# Altium integrated library ON Semi Signal Management Audio ASSP.IntLib: 26 symbols (part 2 of 2)
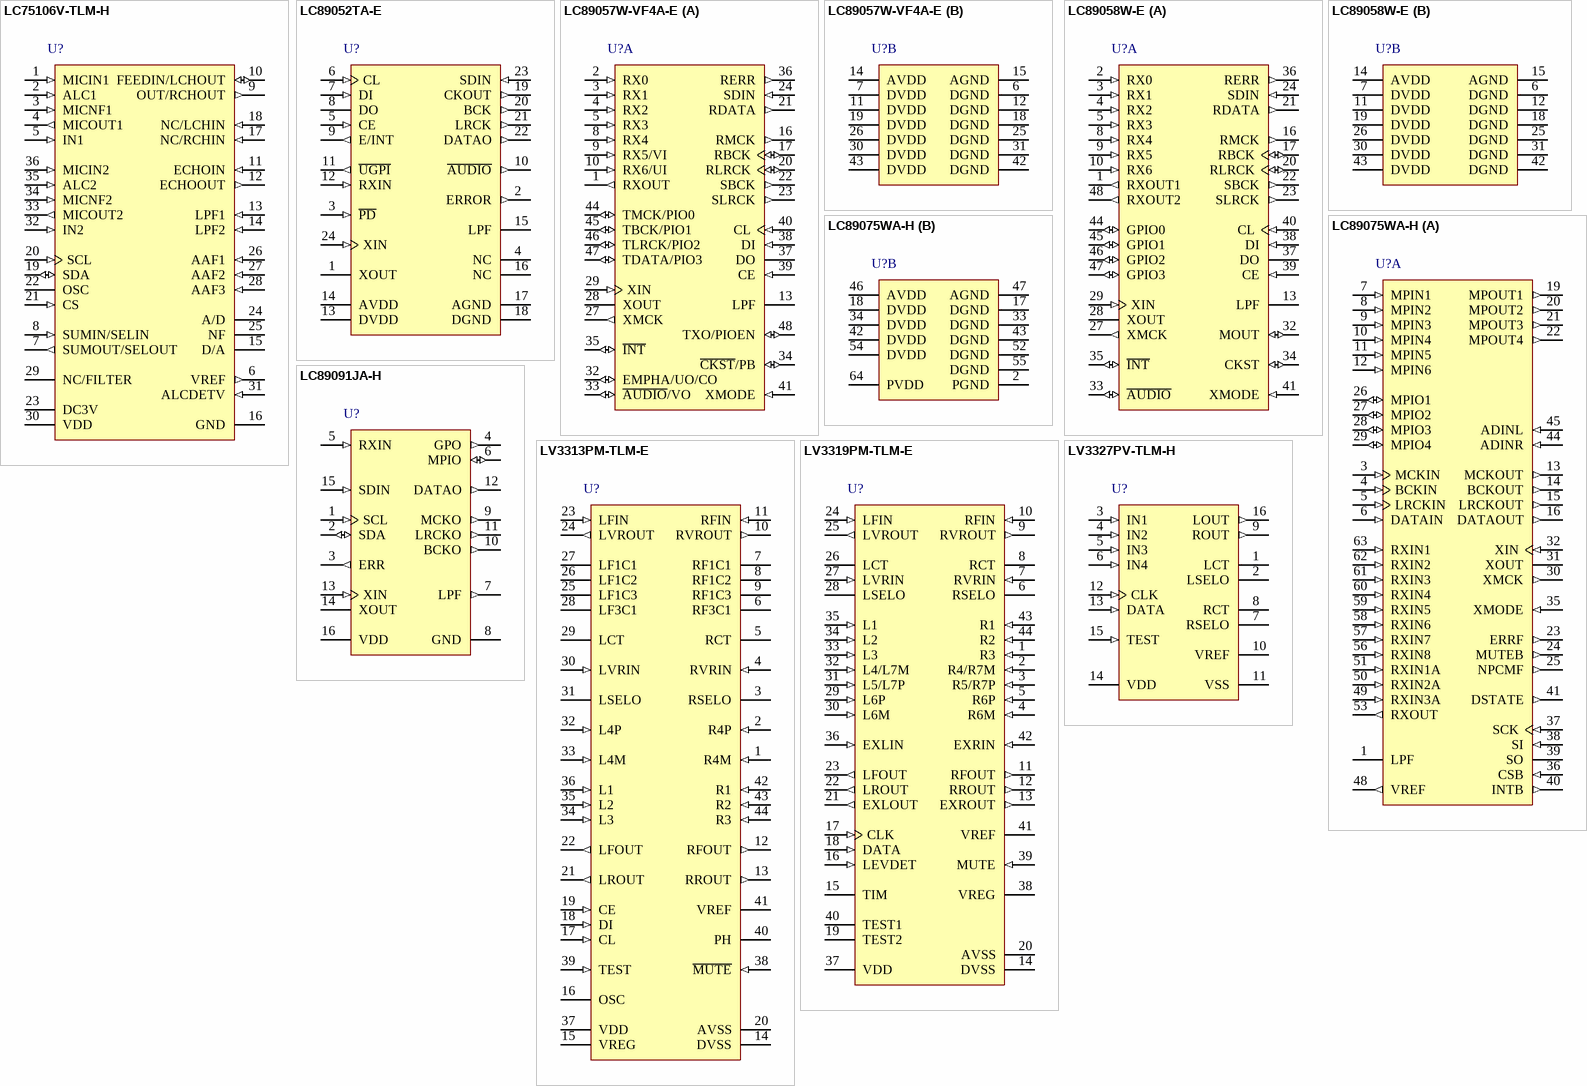
[diagram p2: symbols LC75106V-TLM-H to LV3327PV-TLM-H]

## LC89058W-E
designator U?
Digital Audio Interface Receiver, 3 to 3.6 V, -30 to 70 degC, 48-Pin SQFP, Pb-Free, Tray; Manufacturer: On Semiconductor; PartNumber: LC89058W-E; Function: S/PDIF Demodulator; Supply Voltage Max (V): 3.6; Supply Voltage Min (V): 3; DatasheetVersion: Rev. 0; PackageReference: SQFP-48; PackageDescription: 48-Pin Quad Flat Package, Body 7 x 7 mm, Pitch 0.5 mm; Supplier 1: Digi-Key; Supplier Part Number 1: LC89058W-E-ND; Supplier 2: Mouser; Supplier Part Number 2: 863-LC89058W-E; Packing: Tray; RoHS: TRUE; Mounting Technology: Surface Mount; ComponentLink1Description: Manufacturer URL; ComponentLink1URL: http://www.onsemi.com/; ComponentLink2Description: Datasheet; ComponentLink2URL: http://www.onsemi.com/pub_link/Collateral/ENA1056-D.PDF; ComponentLink3Description: Package Specification; ComponentLink3URL: http://www.onsemi.com/pub_link/Collateral/EN7202-D.PDF
footprint ONSC-SQFP-48_N (QFP, 48-Leads, Body 7x7mm, Pitch 0.5mm, IPC Medium Density)
footprint ONSC-SQFP-48_L (QFP, 48-Leads, Body 7x7mm, Pitch 0.5mm, IPC High Density)
footprint ONSC-SQFP-48_M (QFP, 48-Leads, Body 7x7mm, Pitch 0.5mm, IPC Low Density)
part A pins: 1 RXOUT1 (out) "RX0-6 input S/PDIF through output pin 1", 2 RX0 (in) "5V withstand voltage TLL input level compatible S/PDIF input pin (connected to GND when RX1 is set)", 3 RX1 (in) "Co-axial compatible S/PDIF input pin (supported demodulation sampling frequency of up to 96kHz)", 4 RX2 (in) "5V withstand voltage TLL input level compatible S/PDIF input pin (connected to GND when RX1 is set)", 5 RX3 (in) "5V withstand voltage TLL input level compatible S/PDIF input pin", 8 RX4 (in) "5V withstand voltage TLL input level compatible S/PDIF input pin", 9 RX5 (in) "5V withstand voltage TLL input level compatible S/PDIF input pin", 10 RX6 (in) "5V withstand voltage TLL input level compatible S/PDIF input pin", 13 LPF "PLL loop filter connection pin", 16 RMCK (out) "R system clock output pin (VCO, 512fs, XIN)", 17 RBCK (io) "R system bit clock I/O pin (64fs)", 20 RLRCK (io) "R system LR clock I/O pin (fs)", 21 RDATA (out) "Serial audio data output pin", 22 SBCK (out) "S system bit clock output pin (16fs, 32fs, 64fs, 128fs)", 23 SLRCK (out) "S system LR clock output pin (fs/4, fs/2, fs, 2fs)", 24 SDIN (in) "External serial audio data input pin", 27 XMCK (out) "Oscillation amplifier clock output pin", 28 XOUT "Output pin connected to the resonator", 29 XIN (in) "External clock input pin, connected to the resonator (12.288MHz/24.576MHz)", 32 MOUT (io) "Emphasis information||Input fs monitor output||Chip address setting input pin", 33 ~{AUDIO} (io) "Channel status bit 1 output||Chip address setting input pin", 34 CKST (io) "Clock switching transition period signal output||Master/slave setting input pin", 35 ~{INT} (io) "Microcontroller interrupt signal output||Pin44-48 I/O setting input pin", 36 RERR (out) "PLL clock error, data error flag output", 37 DO (hiz) "CCB microcontroller I/F, read data output pin (3-state)", 38 DI (in) "CCB microcontroller I/F, write data input pin", 39 CE (in) "CCB microcontroller I/F, chip enable input pin", 40 CL (in) "CCB microcontroller I/F, clock input pin", 41 XMODE (in) "System reset input pin", 44 GPIO0 (io) "General-purpose I/O pin||Selector input pin (output referred to RDATA pin)", 45 GPIO1 (io) "General-purpose I/O pin||Selector input pin (output referred to RLRCK pin)", 46 GPIO2 (io) "General-purpose I/O pin||Selector input pin (output referred to RBCK pin)", 47 GPIO3 (io) "General-purpose I/O pin||Selector input pin (output referred to RMCK pin)", 48 RXOUT2 (out) "RX0-6 input S/PDIF through output pin 2"
part B pins: 6 DGND (power) "Digital GND", 7 DVDD (power) "Digital power supply (3.3V)", 11 DVDD (power) "Digital power supply (3.3V)", 12 DGND (power) "Digital GND", 14 AVDD (power) "Analog power supply (3.3V)", 15 AGND (power) "Analog GND", 18 DGND (power) "Digital GND", 19 DVDD (power) "Digital power supply (3.3V)", 25 DGND (power) "Digital GND", 26 DVDD (power) "Digital power supply (3.3V)", 30 DVDD (power) "Digital power supply", 31 DGND (power) "Digital GND", 42 DGND (power) "Digital GND", 43 DVDD (power) "Digital power supply (3.3V)"

## LC89075WA-H
designator U?
Digital Audio Interface Receiver with Stereo ADC and Audio Selector, -30 to 85 degC, 64-Pin SQFP, Pb-Free, Tray; Manufacturer: On Semiconductor; PartNumber: LC89075WA-H; Function: S/PDIF Demodulator; Power Dissipation Max (mW): 559; Supply Voltage Max (V): 5.5, 3.6; Supply Voltage Min (V): 4.5, 3.0; DatasheetVersion: Rev. 1; PackageVersion: Rev. A, 11/2013; PackageReference: SQFP-64-131AK; PackageDescription: 64-Pin Quad Flat Package, Body 10 x 10 mm, Pitch 0.5 mm; Supplier 1: Mouser; Supplier Part Number 1: 863-LC89075WA-H; Packing: Tray; RoHS: TRUE; Mounting Technology: Surface Mount; ComponentLink1Description: Manufacturer URL; ComponentLink1URL: http://www.onsemi.com/; ComponentLink2Description: Datasheet; ComponentLink2URL: http://www.onsemi.com/pub_link/Collateral/ENA2170-D.PDF; ComponentLink3Description: Package Specification; ComponentLink3URL: http://www.onsemi.com/pub_link/Collateral/131AK.PDF
footprint ONSC-SQFP-64-131AK_V (QFP, 64-Leads, Body 10x10mm, Pitch 0.5mm)
part A pins: 1 LPF "PLL:Loop filter connection pin", 3 MCKIN (in) "Master clock input pin", 4 BCKIN (in) "Bit clock input pin", 5 LRCKIN (in) "LR clock input pin/DSD data input pin", 6 DATAIN (in) "2ch audio data input pin/DSD data input pin/1,2ch/8ch audio data input pin", 7 MPIN1 (in) "Master clock input pin/3,4ch/8ch audio data input pin", 8 MPIN2 (in) "Bit clock input pin/5,6ch/8ch audio data input pin", 9 MPIN3 (in) "LR clock input pin/DSD data input pin/7,8ch/8ch audio data input pin", 10 MPIN4 (in) "2ch audio data input pin/DSD data input pin/1,2ch/6ch audio data input pin/External error signal input pin", 11 MPIN5 (in) "3,4ch/6ch audio data input pin/External data mute signal input pin", 12 MPIN6 (in) "5,6ch/6ch audio data input pin/External non-PCM signal input pin", 13 MCKOUT (out) "Master clock output pin", 14 BCKOUT (out) "Bit clock output pin", 15 LRCKOUT (out) "LR clock output pin/DSD data output pin", 16 DATAOUT (out) "2ch audio data output pin/DSD data output pin/1,2ch/6ch audio data output pin/1,2ch/8ch audio data output pin", 19 MPOUT1 (out) "Master clock output pin/3,4ch/6ch audio data output pin/3,4ch/8ch audio data output pin", 20 MPOUT2 (out) "Bit clock output pin/5,6ch/6ch audio data output pin/5,6ch/8ch audio data output pin", 21 MPOUT3 (out) "LR clock output pin/DSD data output pin/7,8ch/8ch audio data output pin", 22 MPOUT4 (out) "2ch audio data output pin/DSD data output pin/Input S/PDIF through output pin", 23 ERRF (out) "PLL lock error, data error flag output pin/External error signal output pin", 24 MUTEB (out) "Clock switching period data mute signal output pin/External data mute signal output pin", 25 NPCMF (out) "Channel status data delimiter bit (bit 1) output pin/External non-PCM signal output pin", 26 MPIO1 (io) "Channel status data delimiter bit (bit 1) output pin/Microcontroller extended register output pin/Master clock input pin (ADC slave operation)/Master clock input pin/3.3V tolerance TTL-compatible S/PDIF input pin", 27 MPIO2 (io) "Channel status copy bit output pin/Microcontroller extended register output pin/Bit clock input pin (ADC slave operation)/Bit clock input pin/3.3V tolerance TTL-compatible S/PDIF input pin", 28 MPIO3 (io) "Channel status emphasis information output pin/Microcontroller extended register output pin/LR clock input pin (ADC slave operation)/LR clock input pin/DSD data input pin/3.3V tolerance TTL-compatible S/PDIF input pin", 29 MPIO4 (io) "Channel status age bit output pin/Microcontroller extended register output pin/2ch audio data output pin (ADC slave operation)/2ch audio data input pin/DSD data input pin/3.3V tolerance TTL-compatible S/PDIF input pin", 30 XMCK (out) "Oscillation amplifier clock output pin", 31 XOUT "Crystal resonator connection output pin", 32 XIN (in) "Crystal resonator connection or external clock input pin (12.288MHz or 24.576MHz)", 35 XMODE (in) "System reset input pin (when powet-on reset is used:fixed at "H")", 36 CSB (in) "SPI microcontroller I/F, chip enable input pin", 37 SCK (in) "SPI microcontroller I/F, shift clock input pin", 38 SI (in) "SPI microcontroller I/F, write data input pin", 39 SO (hiz) "SPI microcontroller I/F,read data output pin", 40 INTB (out) "SPI microcontroller I/F,interrupt signal output pin", 41 DSTATE (out) "Analog or digital data detection flag output pin", 44 ADINR (in) "ADC:Analog Rch data input pin", 45 ADINL (in) "ADC:Analog Lch data input pin", 48 VREF (out) "ADC:Common voltage output pin", 49 RXIN3A (in) "3.3V tolerance TTL-compatible S/PDIF input pin/Coaxial-compatible S/PDIF input pin", 50 RXIN2A (in) "3.3V tolerance TTL-compatible S/PDIF input pin/Coaxial-compatible S/PDIF input pin", 51 RXIN1A (in) "3.3V tolerance TTL-compatible S/PDIF input pin/Coaxial-compatible S/PDIF input pin", 53 RXOUT (out) "Input S/PDIF through output pin", 56 RXIN8 (in) "5V tolerance TTL-compatible S/PDIF input pin/Master clock input pin", 57 RXIN7 (in) "5V tolerance TTL-compatible S/PDIF input pin/Bit clock input pin", 58 RXIN6 (in) "5V tolerance TTL input level S/PDIF input pin/LR clock input pin/DSD data input pin", 59 RXIN5 (in) "5V tolerance TTL-compatible S/PDIF input pin/2ch audio data input pin/DSD data input pin", 60 RXIN4 (in) "5V tolerance TTL-compatible S/PDIF input pin", 61 RXIN3 (in) "5V tolerance TTL-compatible S/PDIF input pin", 62 RXIN2 (in) "5V tolerance TTL-compatible S/PDIF input pin", 63 RXIN1 (in) "5V tolerance TTL-compatible S/PDIF input pin"
part B pins: 2 PGND (power) "PLL:Analog GND", 17 DGND (power) "Digital GND", 18 DVDD (power) "Digital power supply (3.3V)", 33 DGND (power) "Digital GND", 34 DVDD (power) "Digital power supply (3.3V)", 42 DVDD (power) "Digital power supply (3.3V)", 43 DGND (power) "Digital GND", 46 AVDD (power) "ADC:Analog power supply (5V)", 47 AGND (power) "ADC:Analog GND", 52 DGND (power) "Digital GND", 54 DVDD (power) "Digital power supply (3.3V)", 55 DGND (power) "Digital GND", 64 PVDD (power) "PLL:Analog power supply (3.3V)"

## LC89091JA-H
designator U?
Digital Audio Interface Receiver, 3 to 3.6 V, -30 to 70 degC, 16-Pin SSOP, Pb-Free; Manufacturer: On Semiconductor; PartNumber: LC89091JA-H; Function: S/PDIF Demodulator; Supply Voltage Max (V): 3.6; Supply Voltage Min (V): 3; DatasheetVersion: Rev. 1; PackageVersion: Rev. A, 10/2013; PackageReference: SSOP-16-565AM; PackageDescription: 16-Pin Small Outline Package, Body 5.2 x 4.4 mm, Pitch 0.65 mm; Supplier 1: Digi-Key; Supplier Part Number 1: LC89091JA-HOS-ND; Supplier 2: Farnell; Supplier Part Number 2: 2382433; Supplier 3: Newark; Supplier Part Number 3: 37X6180; Supplier 4: Newark; Supplier Part Number 4: 72W1997; Supplier 5: Mouser; Supplier Part Number 5: 863-LC89091JA-H; RoHS: TRUE; Mounting Technology: Surface Mount; ComponentLink1Description: Manufacturer URL; ComponentLink1URL: http://www.onsemi.com/; ComponentLink2Description: Datasheet; ComponentLink2URL: http://www.onsemi.com/pub_link/Collateral/ENA2172-D.PDF; ComponentLink3Description: Package Specification; ComponentLink3URL: http://www.onsemi.com/pub_link/Collateral/565AM.PDF
footprint ONSC-SSOP-16-565AM_V (SOP, 16-Leads, Body 5.3x4.5mm, Pitch 0.65mm)
pins: 1 SCL (in) "Microcontroller interface I2C:clock input pin", 2 SDA (io) "Microcontroller interface I2C:data input pin.Microcontroller interface I2C:data output pin.", 3 ERR (out) "PLL lock error and data error flag output pin (initial output).Output data mute signal output pin", 4 GPO (out) "Channel staus bit-1 (PCM or non-PCM flag) output pin (initial output).Input S/PDIF (RXIN or MPIO) through output pin.General purpose output pin", 5 RXIN (in) "3.3V tolerance TTL-compatible S/PDIF input pin", 6 MPIO (io) "Channel staus emphasis flag output pin (initial output).3.3V tolerance TTL-compatible S/PDIF input pin", 7 LPF (out) "PLL:Loop filter connection output pin", 8 GND (power) "Digital GND", 9 MCKO (out) "Master clock output pin(512fs,256fs,and 128fs)", 10 BCKO (out) "Bit clock output pin (64fs)", 11 LRCKO (out) "LR clock output pin (fs)", 12 DATAO (out) "Serial audio data output pin (I2S and left justified)", 13 XIN (in) "Crystal tesonator connection or external clock input pin (24.576MHz)", 14 XOUT "Crystal tesonator connection output pin", 15 SDIN (in) "Serial audio data input pin", 16 VDD (power) "Digital power supply (3.3V)"

## LV3313PM-TLM-E
designator U?
Electronic Volume IC for Car Audio Systems, 7 to 9 V, -40 to 85 degC, 44-Pin QIP44M, Pb-Free, Tape and Reel; Manufacturer: On Semiconductor; PartNumber: LV3313PM-TLM-E; Power Dissipation Max (mW): 600; Supply Voltage Max (V): 9; Supply Voltage Min (V): 7; DatasheetVersion: Rev. 0; PackageVersion: Rev. A, 11/2013; PackageReference: QIP44M-44-122BK; PackageDescription: 44-Pin Quad Flat Package, Body 9.925 x 9.925 mm, Pitch 0.8 mm; Supplier 1: Digi-Key; Supplier Part Number 1: LV3313PM-TLM-E-ND; Supplier 2: Newark; Supplier Part Number 2: 65T1360; Supplier 3: Mouser; Supplier Part Number 3: 863-LV3313PM-TLM-E; Function: Electronic Volume; Packing: Tape and Reel; RoHS: TRUE; Mounting Technology: Surface Mount; ComponentLink1Description: Manufacturer URL; ComponentLink1URL: http://www.onsemi.com/; ComponentLink2Description: Datasheet; ComponentLink2URL: http://www.onsemi.com/pub_link/Collateral/ENA1257-D.PDF; ComponentLink3Description: Package Specification; ComponentLink3URL: http://www.onsemi.com/pub_link/Collateral/122BK.PDF
footprint ONSC-QIP44M-44-122BK_V (QFP, 44-Leads, Body 9.9x9.9mm, Pitch 0.8mm)
pins: 1 R4M (in) "Differential input pins.", 2 R4P (in) "Differential input pins.", 3 RSELO "Input selector output pins.", 4 RVRIN (in) "Main volume input pins.", 5 RCT "Loudness function pins.", 6 RF3C1 "Capacitor connection pins for configuring equalizer bass band filter. Caonnect a high band compensation capacitor between LF3C1 (RF3C1) and VSS.", 7 RF1C1 "Capacitor connection pins for configuring equalizer bass band filter. Caonnect a capacitor between LF1C1 (RF1C1) and LF1C2 (RF1C2), and between LF1C2 (RF1C2) and LF1C3 (RF1C3).", 8 RF1C2 "Capacitor connection pins for configuring equalizer bass band filter. Caonnect a capacitor between LF1C1 (RF1C1) and LF1C2 (RF1C2), and between LF1C2 (RF1C2) and LF1C3 (RF1C3).", 9 RF1C3 "Capacitor connection pins for configuring equalizer bass band filter. Caonnect a capacitor between LF1C1 (RF1C1) and LF1C2 (RF1C2), and between LF1C2 (RF1C2) and LF1C3 (RF1C3).", 10 RVROUT (out) "Tone output pins.", 11 RFIN (in) "Fader block input pins. Drive at low impedance.", 12 RFOUT (out) "Fader output pins. Attenuation is possible separately for the front end and rear end.", 13 RROUT (out) "Fader output pins. Attenuation is possible separately for the front end and rear end.", 14 DVSS (power) "Logic system ground pin.", 15 VREG (power) "Internal logic voltage pin.", 16 OSC "External oscillat input pin. Normally this pin is OPEN.", 17 CL (in) "Input pin for serial data and clock used for control.", 18 DI (in) "Input pin for serial data and clock used for control.", 19 CE (in) "Chip enable pin. Data is written to the internal latch and the analog switches are operated when the level changes from High to Low. Data transfer is enabled when the level is High.", 20 AVSS (power) "Ground pin.", 21 LROUT (out) "Fader output pins. Attenuation is possible separately for the front end and rear end.", 22 LFOUT (out) "Fader output pins. Attenuation is possible separately for the front end and rear end.", 23 LFIN (in) "Fader block input pins. Drive at low impedance.", 24 LVROUT (out) "Tone output pins.", 25 LF1C3 "Capacitor connection pins for configuring equalizer bass band filter. Caonnect a capacitor between LF1C1 (RF1C1) and LF1C2 (RF1C2), and between LF1C2 (RF1C2) and LF1C3 (RF1C3).", 26 LF1C2 "Capacitor connection pins for configuring equalizer bass band filter. Caonnect a capacitor between LF1C1 (RF1C1) and LF1C2 (RF1C2), and between LF1C2 (RF1C2) and LF1C3 (RF1C3).", 27 LF1C1 "Capacitor connection pins for configuring equalizer bass band filter. Caonnect a capacitor between LF1C1 (RF1C1) and LF1C2 (RF1C2), and between LF1C2 (RF1C2) and LF1C3 (RF1C3).", 28 LF3C1 "Capacitor connection pins for configuring equalizer bass band filter. Caonnect a high band compensation capacitor between LF3C1 (RF3C1) and VSS.", 29 LCT "Loudness function pins.", 30 LVRIN (in) "Main volume input pins.", 31 LSELO "Input selector output pins.", 32 L4P (in) "Differential input pins.", 33 L4M (in) "Differential input pins.", 34 L3 (in) "Single end input pins.", 35 L2 (in) "Single end input pins.", 36 L1 (in) "Single end input pins.", 37 VDD (power) "Power supply pin.", 38 ~{MUTE} (in) "External muting control pin. Setting this pin to VSS level sets forcibly fader volume block to -oo level.", 39 TEST (in) "IC test pin. Normally this pin is OPEN.", 40 PH "Automatic zero cross detection pin.", 41 VREF "Connect a capacitor of a few tens of uF between Vref and AVSS (VSS) as a 0.55 x VDDvoltage generator, current ripple countermeasure.", 42 R1 (in) "Single end input pins.", 43 R2 (in) "Single end input pins.", 44 R3 (in) "Single end input pins."

## LV3319PM-TLM-E
designator U?
Electronic Volume IC for Car Audio Systems, 7 to 9.5 V, -40 to 85 degC, 44-Pin QIP44M, Pb-Free, Tape and Reel; Manufacturer: On Semiconductor; PartNumber: LV3319PM-TLM-E; Power Dissipation Max (mW): 600; Supply Voltage Max (V): 9.5; Supply Voltage Min (V): 7; DatasheetVersion: Rev. 0; PackageVersion: Rev. A, 11/2013; PackageReference: QIP44M-44-122BK; PackageDescription: 44-Pin Quad Flat Package, Body 9.925 x 9.925 mm, Pitch 0.8 mm; Supplier 1: Digi-Key; Supplier Part Number 1: LV3319PM-TLM-E-ND; Supplier 2: Newark; Supplier Part Number 2: 65T1361; Supplier 3: Mouser; Supplier Part Number 3: 863-LV3319PM-TLM-E; Function: Electronic Volume; Packing: Tape and Reel; RoHS: TRUE; Mounting Technology: Surface Mount; ComponentLink1Description: Manufacturer URL; ComponentLink1URL: http://www.onsemi.com/; ComponentLink2Description: Datasheet; ComponentLink2URL: http://www.onsemi.com/pub_link/Collateral/ENA1703-D.PDF; ComponentLink3Description: Package Specification; ComponentLink3URL: http://www.onsemi.com/pub_link/Collateral/122BK.PDF
footprint ONSC-QIP44M-44-122BK_V (QFP, 44-Leads, Body 9.9x9.9mm, Pitch 0.8mm)
pins: 1 R3 (in) "Single end input pins.", 2 R4/R7M (in) "Single end input pins/ Differential input pins When differential input is selected L4 -->L7M, L -->L7P, R4-->R7M, R5-->R7P", 3 R5/R7P (in) "Single end input pins/ Differential input pins When differential input is selected L4 -->L7M, L -->L7P, R4-->R7M, R5-->R7P", 4 R6M (in) "Differential input pins.", 5 R6P (in) "Differential input pins.", 6 RSELO "Input selector output pins.", 7 RVRIN (in) "Main volume input pins.", 8 RCT "Loudness function pins.", 9 RVROUT (out) "Tone output pins.", 10 RFIN (in) "Fader block input pins. Drive at low impedance.", 11 RFOUT (out) "Fader output pins. Attenuation is possible separately for the front end and rear end.", 12 RROUT (out) "Fader output pins. Attenuation is possible separately for the front end and rear end.", 13 EXROUT (out) "General-purpose port output pin.", 14 DVSS (power) "Digital ground pin", 15 TIM "Timer pin when there is no signal in the zero cross circuit. Forcibly  set data when there is no zero cross signal, from the time the data is set until the timer ends.", 16 LEVDET (in) "Output level detection pin. When the level detection unused:OPEN", 17 CLK (in) "Serial data clock input pin for control.", 18 DATA (in) "Serial data input pin for control.", 19 TEST2 "TEST pin. Normally this pin is OPEN.", 20 AVSS (power) "Analog ground pin.", 21 EXLOUT (out) "General-purpose port output pin.", 22 LROUT (out) "Fader output pins. Attenuation is possible separately for the front end and rear end.", 23 LFOUT (out) "Fader output pins. Attenuation is possible separately for the front end and rear end.", 24 LFIN (in) "Fader block input pins. Drive at low impedance.", 25 LVROUT (out) "Tone output pins.", 26 LCT "Loudness function pins.", 27 LVRIN (in) "Main volume input pins.", 28 LSELO "Input selector output pins.", 29 L6P (in) "Differential input pins.", 30 L6M (in) "Differential input pins.", 31 L5/L7P (in) "Single end input pins/ Differential input pins When differential input is selected L4 -->L7M, L -->L7P, R4-->R7M, R5-->R7P", 32 L4/L7M (in) "Single end input pins/ Differential input pins When differential input is selected L4 -->L7M, L -->L7P, R4-->R7M, R5-->R7P", 33 L3 (in) "Single end input pins.", 34 L2 (in) "Single end input pins.", 35 L1 (in) "Single end input pins.", 36 EXLIN (in) "General-purpose port input pin.", 37 VDD (power) "Power supply pin.", 38 VREG (power) "Internal logic voltage pin.", 39 MUTE (in) "External muting control pin. Setting this pin to VSS level sets forcibly fader volume block to -oo level.", 40 TEST1 "TEST pin. Normally this pin is OPEN.", 41 VREF "Connect a capacitor of a few tens of uF between VREF and AVSS (VSS) as a 0.5 x VDD voltage generator, current ripple countermeasure.", 42 EXRIN (in) "General-purpose port input pin.", 43 R1 (in) "Single end input pins.", 44 R2 (in) "Single end input pins."

## LV3327PV-TLM-H
designator U?
Electronic Volume IC, 3 to 5.5 V, -40 to 85 degC, 16-Pin SSOP, Pb-Free; Manufacturer: On Semiconductor; PartNumber: LV3327PV-TLM-H; Supply Voltage Max (V): 5.5; Supply Voltage Min (V): 3; DatasheetVersion: Rev. 0; PackageReference: SSOP-16; PackageDescription: 16-Pin Small Outline Package, Body 5.2 x 4.4 mm, Pitch 0.65 mm; Supplier 1: Digi-Key; Supplier Part Number 1: LV3327PV-TLM-H-ND; Supplier 2: Mouser; Supplier Part Number 2: 863-LV3327PV-TLM-H; Function: Electronic Volume; RoHS: TRUE; Mounting Technology: Surface Mount; ComponentLink1Description: Manufacturer URL; ComponentLink1URL: http://www.onsemi.com/; ComponentLink2Description: Datasheet; ComponentLink2URL: http://www.onsemi.com/pub_link/Collateral/ENA1879-D.PDF; ComponentLink3Description: Package Specification; ComponentLink3URL: http://www.onsemi.com/pub_link/Collateral/ENA1879-D.PDF
footprint ONSC-SSOP-16_N (SOP, 16-Leads, Body 5.2x4.4mm, Pitch 0.65mm, IPC Medium Density)
footprint ONSC-SSOP-16_L (SOP, 16-Leads, Body 5.2x4.4mm, Pitch 0.65mm, IPC High Density)
footprint ONSC-SSOP-16_M (SOP, 16-Leads, Body 5.2x4.4mm, Pitch 0.65mm, IPC Low Density)
pins: 1 LCT "Tap pins for external loudness", 2 LSELO "Input selector output pins", 3 IN1 (in) "Input pins.", 4 IN2 (in) "Input pins.", 5 IN3 (in) "Input pins.", 6 IN4 (in) "Input pins.", 7 RSELO "Input selector output pins", 8 RCT "Tap pins for external loudness", 9 ROUT (out) "Output pins.", 10 VREF "Connect a capacitor of a few tens of uF between VREF and AVSS (VSS) as a 0.5 x VDD voltage generator, current ripple countermeasure.", 11 VSS (power) "Ground pin.", 12 CLK (in) "Serial clock input pin for control.", 13 DATA (in) "Serial data input pin for control.", 14 VDD (power) "Power supply pin.", 15 TEST (in) "TEST pin. Normally this pin is OPEN.", 16 LOUT (out) "Output pins."